# EAGLE library part MPL3115A2 (library TrackerPeripherals)
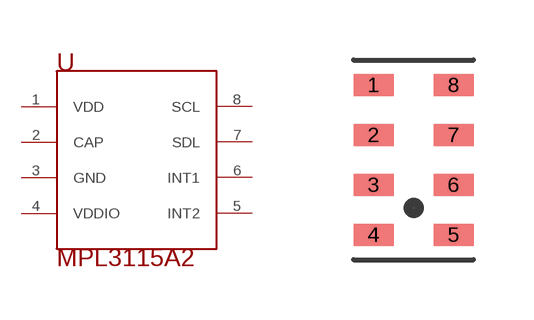
[diagram p1: symbol with the pads of LGA8; footprint LGA8]

Designator prefix U

## MPL3115A2  [LGA8]
1  VDD
2  CAP
3  GND
4  VDDIO
5  INT2
6  INT1
7  SDL
8  SCL

## Footprint LGA8 (pad centres in mm)
smd 1 x 0.55: 1 -1,1.875; 2 -1,0.625; 3 -1,-0.625; 4 -1,-1.875; 5 1,-1.875; 6 1,-0.625; 7 1,0.625; 8 1,1.875